# Altium footprint library 3306F-1-104.PcbLib: 2 footprints
Each footprint in its own frame and in the unit in brackets; x right, y up, seen from the top. Pads: shape width x height; smd on the part's side, far side on the other; paste and mask are expansions set on the pad; w line width, h text height; cw(c..) or ccw(c..) is an arc to the next point about the centre after c.
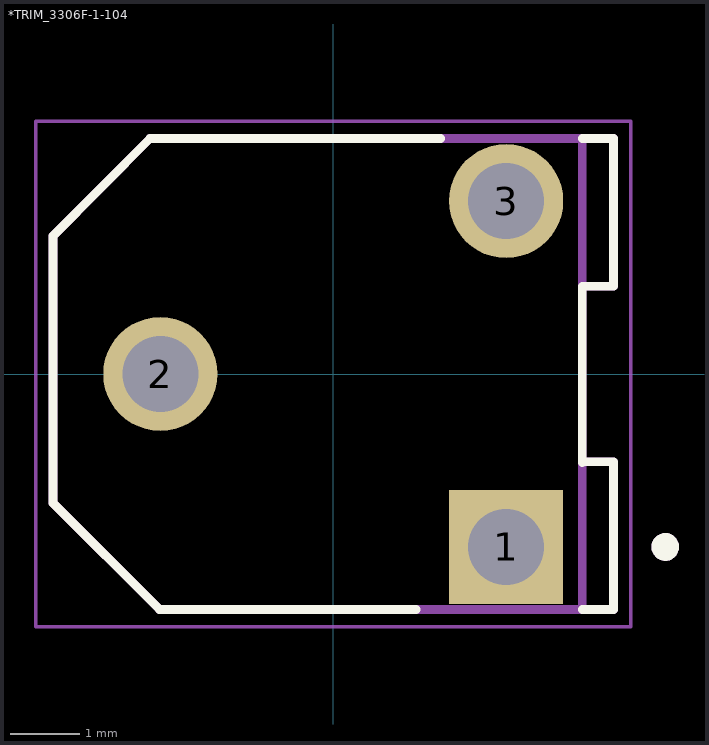
[diagram p0: the footprints below, top view; thin cyan lines are the x and y axes]

## *TRIM_3306F-1-104 [mm]
pads (3):
  rect 1.65x1.65 hole 1.1: 1(2.5,-2.5)
  round 1.65 hole 1.1: 2(-2.5,0) 3(2.5,2.5)
Top Overlay:
  circle w0.2: c4.8,-2.5 r0.1
  lines w0.127: 1.2,-3.405 -2.51,-3.405 -4.05,-1.87 -4.05,2 -2.65,3.405 1.55,3.405 ; 3.6,-3.405 4.05,-3.405 4.05,-1.27 3.6,-1.27 ; 3.6,-1.28 3.6,-1.27 ; 3.6,3.405 4.05,3.405 4.05,1.27 3.6,1.27 3.6,-1.27
Mechanical 4:
  circle w0.2: c4.8,-2.5 r0.1
  circle w0.2: c4.8,-2.5 r0.1
  lines w0.127: -4.05,-1.87 -2.51,-3.405 ; -4.05,-1.87 -4.05,2 ; -4.05,-1.87 -2.51,-3.405 ; -4.05,-1.87 -4.05,2 ; -4.05,2 -2.65,3.405 ; -4.05,2 -2.65,3.405 ; -2.65,3.405 3.6,3.405 ; -2.65,3.405 3.6,3.405 ; -2.51,-3.405 3.6,-3.405 ; -2.51,-3.405 3.6,-3.405 ; 3.6,-3.405 4.05,-3.405 ; 3.6,-3.405 3.6,-1.27 ; 3.6,-3.405 4.05,-3.405 ; 3.6,-3.405 3.6,-1.27 ; 3.6,-1.27 4.05,-1.27 ; 3.6,-1.27 3.6,1.27 ; 3.6,-1.27 4.05,-1.27 ; 3.6,-1.27 3.6,1.27 ; 3.6,1.27 4.05,1.27 ; 3.6,1.27 3.6,3.405 ; 3.6,1.27 4.05,1.27 ; 3.6,1.27 3.6,3.405 ; 3.6,3.405 4.05,3.405 ; 3.6,3.405 4.05,3.405 ; 4.05,-3.405 4.05,-1.27 ; 4.05,-3.405 4.05,-1.27 ; 4.05,1.27 4.05,3.405 ; 4.05,1.27 4.05,3.405
Mechanical 16:
  lines w0.05: -4.3,-3.655 -4.3,3.655 4.3,3.655 4.3,-3.655 -4.3,-3.655

## PCBComponent_1 [mm]